# Altium integrated library lib_ti.IntLib: 45 symbols
Pins are listed as number, name and electrical type; pins without a type are passive.

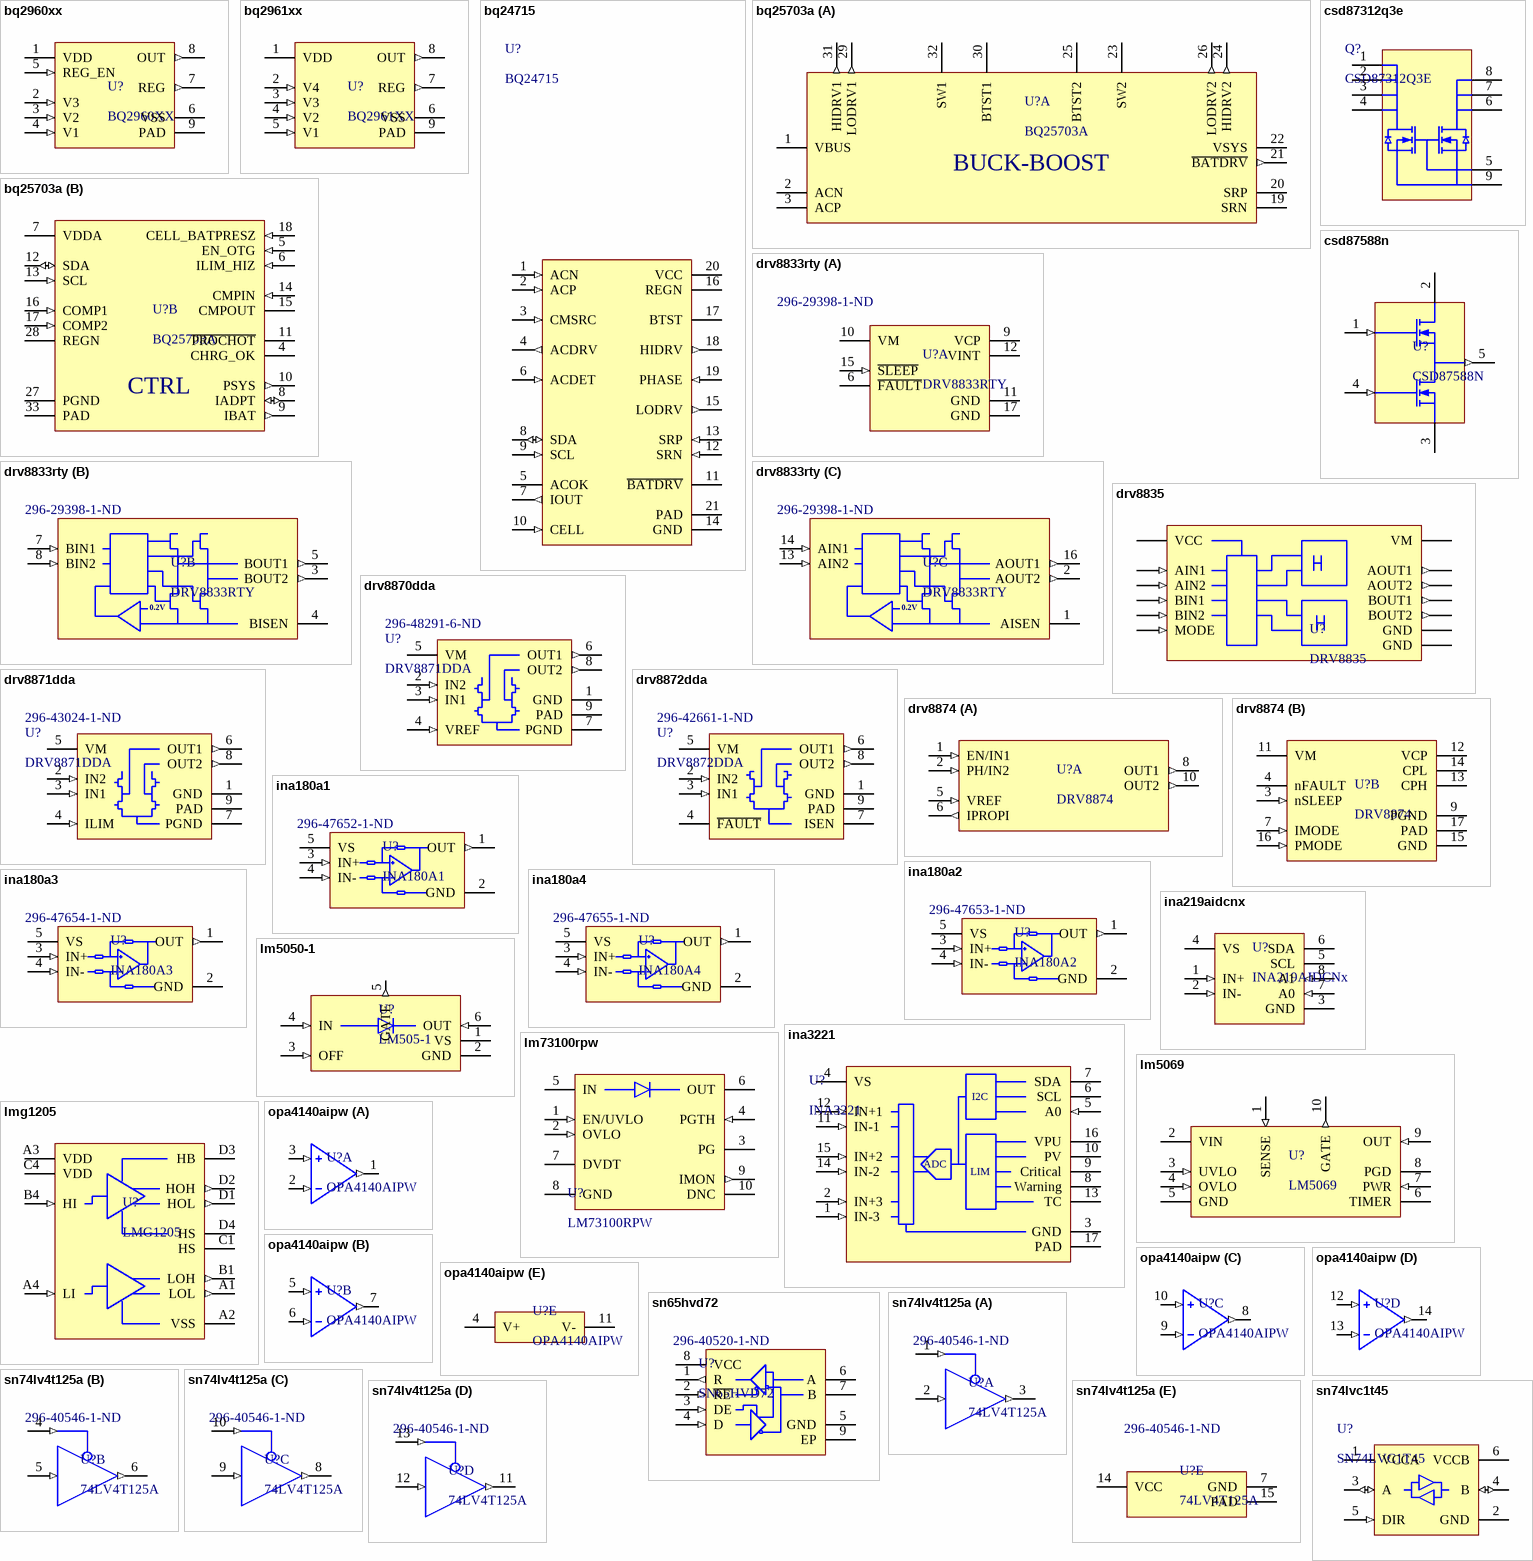
[diagram p0: symbols bq2960xx to sn74lvc1t45]

## bq2960xx
designator U?, comment BQ2960XX
BQ296xxx Overvoltage Protection for 2-Series, 3-Series, and 4-Series Cell Li-Ion Batteries with Regulated Output Supply; ComponentLink1Description: datasheet; ComponentLink1URL: http://www.ti.com/lit/ds/symlink/bq2962.pdf
footprint SON50P200X80_HS-9N-BQ2960XX (SON, 8-Leads, Body 2.00x2.00mm, Pitch 0.50mm, Thermal Pad 1.60x0.69mm, IPC Medium Density)
pins: 1 VDD (power), 2 V3 (in), 3 V2 (in), 4 V1 (in), 5 REG_EN (in), 6 VSS (power), 7 REG (out), 8 OUT (out), 9 PAD (power)

## bq2961xx
designator U?, comment BQ2961XX
BQ296xxx Overvoltage Protection for 2-Series, 3-Series, and 4-Series Cell Li-Ion Batteries with Regulated Output Supply; ComponentLink1Description: datasheet; ComponentLink1URL: http://www.ti.com/lit/ds/symlink/bq2962.pdf
footprint SON50P200X80_HS-9N-BQ2960XX (SON, 8-Leads, Body 2.00x2.00mm, Pitch 0.50mm, Thermal Pad 1.60x0.69mm, IPC Medium Density)
pins: 1 VDD (power), 2 V4 (in), 3 V3 (in), 4 V2 (in), 5 V1 (in), 6 VSS (power), 7 REG (out), 8 OUT (out), 9 PAD (power)

## bq24715
designator U?, comment BQ24715
2-3 Cell NVDC-1 Battery Charger Controller with Ultra-Fast Transient Response and High Light-Load Efficiency; ComponentLink1Description: Datasheet; ComponentLink1URL: https://www.ti.com/lit/gpn/bq24715; Supplier 1: Digi-Key; Supplier Part Number 1: 296-39928-1-ND; Supplier 2: Mouser; Supplier Part Number 2: 595-BQ24715RGRR; Supplier 3: Digi-Key; Supplier Part Number 3: 296-48494-1-ND; Supplier 4: Mouser; Supplier Part Number 4: 595-BQ24715RGRT
footprint QFN50P350X350X100_HS-21N-BQ24715 (QFN, 20-Leads, Body 3.50x3.50mm, Pitch 0.50mm, Thermal Pad 2.00x2.00mm, IPC Medium Density)
pins: 1 ACN (in), 2 ACP (in), 3 CMSRC (in), 4 ACDRV (out), 5 ACOK (oc), 6 ACDET (in), 7 IOUT (out), 8 SDA (io), 9 SCL (in), 10 CELL (in), 11 ~{BATDRV} (oc), 12 SRN (in), 13 SRP (in), 14 GND (power), 15 LODRV (out), 16 REGN (power), 17 BTST (power), 18 HIDRV (out), 19 PHASE (in), 20 VCC (power), 21 PAD (power)

## bq25703a
designator U?, comment BQ25703A
I2C Multi-Chemistry Battery Buck-Boost Charge Controller With System Power Monitor and Processor Hot Monitor; ComponentLink1Description: datasheet; ComponentLink1URL: http://www.ti.com/lit/ds/symlink/bq25703a.pdf
footprint QFN40P400X400X80_HS-33N_BQ25703A (QFN, 32-Leads, Body 4.00x4.00mm, Pitch 0.40mm, Thermal Pad 2.80x2.80mm, IPC Medium Density)
part A pins: 1 VBUS (power), 2 ACN (power), 3 ACP (power), 19 SRN (power), 20 SRP (power), 21 ~{BATDRV} (out), 22 VSYS (power), 23 SW2 (power), 24 HIDRV2 (out), 25 BTST2 (power), 26 LODRV2 (out), 29 LODRV1 (out), 30 BTST1 (power), 31 HIDRV1 (out), 32 SW1 (power)
part B pins: 4 CHRG_OK (oc), 5 EN_OTG (in), 6 ILIM_HIZ (in), 7 VDDA (power), 8 IADPT (io), 9 IBAT (out), 10 PSYS (out), 11 ~{PROCHOT} (oc), 12 SDA (io), 13 SCL (in), 14 CMPIN (in), 15 CMPOUT (oc), 16 COMP1 (in), 17 COMP2 (in), 18 CELL_BATPRESZ (in), 27 PGND (power), 28 REGN (power), 33 PAD (power)
part A text: BUCK-BOOST
part B text: CTRL

## csd87312q3e
designator Q?, comment CSD87312Q3E
Dual 30-V N-Channel NexFET™ Power MOSFETs; ComponentLink1Description: Datasheet; ComponentLink1URL: https://www.ti.com/lit/ds/symlink/csd87312q3e.pdf
footprint SON65P330X105_HS-9N-CSD87312Q3E (SON, 8-Leads, Body 3.30x3.30mm, Pitch 0.65mm, Thermal Pad 2.70x1.79mm, IPC Medium Density)
pins: 1 D1, 2 D1, 3 D1, 4 D1, 5 G, 6 D2, 7 D2, 8 D2, 9 S

## csd87588n
designator U?, comment CSD87588N
Synchronous Buck NexFET™ Power Block II; ComponentLink1Description: datasheet; ComponentLink1URL: http://www.ti.com/lit/ds/symlink/csd87588n.pdf
footprint 5PTAB
pins: 1 TG (in), 2 VIN (power), 3 GND (power), 4 BG (in), 5 VSW (out)

## drv8833rty
designator U?, comment DRV8833RTY  Supplier Part Number 1: 296-29398-1-ND
Dual H-Bridge Motor Driver; ComponentLink1Description: Datasheet; ComponentLink1URL: http://www.ti.com/lit/ds/symlink/drv8833.pdf; Supplier 1: Digi-Key
footprint QFN65P400X400X80_HS-17N (QFN, 16-Leads, Body 4,00x4,00mm, Pitch 0,65mm, Thermal Pad 2,10x2,10mm, IPC Medium Density)
part A pins: 6 ~{FAULT} (oc), 9 VCP (power), 10 VM (power), 11 GND (power), 12 VINT (power), 15 ~{SLEEP} (in), 17 GND (power)
part B pins: 3 BOUT2 (out), 4 BISEN (power), 5 BOUT1 (out), 7 BIN1 (in), 8 BIN2 (in)
part C pins: 1 AISEN (power), 2 AOUT2 (out), 13 AIN2 (in), 14 AIN1 (in), 16 AOUT1 (out)
part B text: 0.2V
part C text: 0.2V

## drv8835
designator U?, comment DRV8835
Dual Low-VoltageH-BridgeIC; ComponentLink1Description: Datasheet; ComponentLink1URL: http://www.ti.com/lit/ds/symlink/drv8835.pdf
footprint SON50P200X80_HS-13N-DRV8835 (SON, 12-Leads, Body 3.00x2.00mm, Pitch 0.50mm, Thermal Pad 2.00x0.79mm, IPC Medium Density)
pins: 1 VM (power), 2 AOUT1 (out), 3 AOUT2 (out), 4 BOUT1 (out), 5 BOUT2 (out), 6 GND (power), 7 BIN2 (in), 8 BIN1 (in), 9 AIN2 (in), 10 AIN1 (in), 11 MODE (in), 12 VCC (power), 13 GND (power)

## drv8870dda
designator U?, comment DRV8871DDA  Supplier Part Number 1: 296-48291-6-ND
3.6-A Brushed DC Motor Driver (PWM Control); #digikey: *; #mouser: *; Supplier 1: Digi-Key; ComponentLink1Description: Datasheet; ComponentLink1URL: http://www.ti.com/lit/ds/symlink/drv8870.pdf
footprint SOIC127P600X170_HS-9N (SOIC, 8-Leads, Body 4,90x3,90mm, Pitch 1,27mm, Thermal Pad 3,10x2,40mm, IPC Medium Density)
pins: 1 GND (power), 2 IN2 (in), 3 IN1 (in), 4 VREF (in), 5 VM (power), 6 OUT1 (out), 7 PGND (power), 8 OUT2 (out), 9 PAD (power)

## drv8871dda
designator U?, comment DRV8871DDA  Supplier Part Number 1: 296-43024-1-ND
3.6-A Brushed DC Motor Driver With Internal Current Sense (PWM Control)er; #digikey: *; #mouser: *; Supplier 1: Digi-Key; ComponentLink1Description: Datasheet; ComponentLink1URL: http://www.ti.com/lit/ds/symlink/drv8871.pdf
footprint SOIC127P600X170_HS-9N (SOIC, 8-Leads, Body 4,90x3,90mm, Pitch 1,27mm, Thermal Pad 3,10x2,40mm, IPC Medium Density)
pins: 1 GND (power), 2 IN2 (in), 3 IN1 (in), 4 ILIM (in), 5 VM (power), 6 OUT1 (out), 7 PGND (power), 8 OUT2 (out), 9 PAD (power)

## drv8872dda
designator U?, comment DRV8872DDA  Supplier Part Number 1: 296-42661-1-ND
3.6-A Brushed DC Motor Driver With Fault Reporting (PWM Control); ComponentLink1Description: Datasheet; ComponentLink1URL: http://www.ti.com/lit/ds/symlink/drv8872.pdf; #digikey: *; #mouser: *; Supplier 1: Digi-Key
footprint SOIC127P600X170_HS-9N (SOIC, 8-Leads, Body 4,90x3,90mm, Pitch 1,27mm, Thermal Pad 3,10x2,40mm, IPC Medium Density)
pins: 1 GND (power), 2 IN2 (in), 3 IN1 (in), 4 ~{FAULT} (oc), 5 VM (power), 6 OUT1 (out), 7 ISEN (power), 8 OUT2 (out), 9 PAD (power)

## drv8874
designator U?, comment DRV8874
H-Bridge Motor Driver With Integrated Current Sense and Regulation; ComponentLink1Description: Datasheet; ComponentLink1URL: http://www.ti.com/lit/gpn/drv8874
footprint TSOP65P640X120_HS-17N_DRV8874 (TSOP, 16-Leads, Body 5.00x4.40mm, Pitch 0.65mm, Thermal Pad 3.55x2.46mm, IPC Medium Density)
part A pins: 1 EN/IN1 (in), 2 PH/IN2 (in), 5 VREF (in), 6 IPROPI (out), 8 OUT1 (out), 10 OUT2 (out)
part B pins: 3 nSLEEP (in), 4 nFAULT (oc), 7 IMODE (in), 9 PGND (power), 11 VM (power), 12 VCP (power), 13 CPH, 14 CPL, 15 GND (power), 16 PMODE (in), 17 PAD (power)

## ina180a1
designator U?, comment INA180A1  Supplier Part Number 1: 296-47652-1-ND
Low- and High-Side Voltage Output, Current-Sense Amplifiers; Datasheet: http://www.ti.com/lit/ds/symlink/ina180.pdf; #digikey: *; #mouser: *; Supplier 1: Digi-Key
footprint SOT95P280X145-5N (SOT23, 5-Leads, Body 2,90x2,80mm, Pitch 0,95mm, IPC Medium Density)
pins: 1 OUT (out), 2 GND (power), 3 IN+ (in), 4 IN- (in), 5 VS (power)

## ina180a2
designator U?, comment INA180A2  Supplier Part Number 1: 296-47653-1-ND
Low- and High-Side Voltage Output, Current-Sense Amplifiers; Datasheet: http://www.ti.com/lit/ds/symlink/ina180.pdf; #digikey: *; #mouser: *; Supplier 1: Digi-Key
footprint SOT95P280X145-5N (SOT23, 5-Leads, Body 2,90x2,80mm, Pitch 0,95mm, IPC Medium Density)
pins: 1 OUT (out), 2 GND (power), 3 IN+ (in), 4 IN- (in), 5 VS (power)

## ina180a3
designator U?, comment INA180A3  Supplier Part Number 1: 296-47654-1-ND
Low- and High-Side Voltage Output, Current-Sense Amplifiers; Datasheet: http://www.ti.com/lit/ds/symlink/ina180.pdf; #digikey: *; #mouser: *; Supplier 1: Digi-Key
footprint SOT95P280X145-5N (SOT23, 5-Leads, Body 2,90x2,80mm, Pitch 0,95mm, IPC Medium Density)
pins: 1 OUT (out), 2 GND (power), 3 IN+ (in), 4 IN- (in), 5 VS (power)

## ina180a4
designator U?, comment INA180A4  Supplier Part Number 1: 296-47655-1-ND
Low- and High-Side Voltage Output, Current-Sense Amplifiers; Datasheet: http://www.ti.com/lit/ds/symlink/ina180.pdf; #digikey: *; #mouser: *; Supplier 1: Digi-Key
footprint SOT95P280X145-5N (SOT23, 5-Leads, Body 2,90x2,80mm, Pitch 0,95mm, IPC Medium Density)
pins: 1 OUT (out), 2 GND (power), 3 IN+ (in), 4 IN- (in), 5 VS (power)

## ina219aidcnx
designator U?, comment INA219AIDCNx
INA219 Zero-Drift, Bidirectional Current/Power Monitor With I2C Interface; ComponentLink1Description: Datasheet; ComponentLink1URL: https://www.ti.com/lit/ds/symlink/ina219.pdf?&ts=1589650364826; Supplier 1: Digi-Key; Supplier Part Number 1: 296-23770-1-ND
footprint TSOP65P280X145-8N (TSOP, 8-Leads, Body 2.90x1.60mm, Pitch 0.65mm, IPC Medium Density)
pins: 1 IN+ (in), 2 IN- (in), 3 GND (power), 4 VS (power), 5 SCL (oc), 6 SDA (oc), 7 A0 (in), 8 A1 (in)

## ina3221
designator U?, comment INA3221
Triple-Channel, High-Side Measurement. Shunt and Bus Voltage Monitor with I 2 C- and SMBUS-Compatible Interface; ComponentLink1Description: datasheet; ComponentLink1URL: http://www.ti.com/lit/ds/sbos576b/sbos576b.pdf
footprint QFN65P400X400X100_HS-17N_INA3221 (QFN, 16-Leads, Body 4.00x4.00mm, Pitch 0.65mm, Thermal Pad 2.10x2.10mm, IPC Medium Density)
pins: 1 IN-3 (in), 2 IN+3 (in), 3 GND (power), 4 VS (power), 5 A0 (in), 6 SCL (oc), 7 SDA (oc), 8 Warning (oc), 9 Critical (oc), 10 PV (oc), 11 IN-1 (in), 12 IN+1 (in), 13 TC (oc), 14 IN-2 (in), 15 IN+2 (in), 16 VPU (power), 17 PAD (power)
text: I2C; ADC; LIM

## lm5050-1
designator U?, comment LM505-1
High-Side OR-ing FET Controller; #digikey: *; ComponentLink1Description: datasheet; ComponentLink1URL: http://www.ti.com/lit/ds/snvs629e/snvs629e.pdf
footprint SOT95P280X110-6N-LM5050-1 (SOT23, 6-Leads, Body 2,90x2,80mm, Pitch 0,95mm, IPC Medium Density)
pins: 1 VS (power), 2 GND (power), 3 OFF (in), 4 IN (in), 5 GATE (out), 6 OUT (in)

## lm5069
designator U?, comment LM5069
Positive High-Voltage Hot Swap and In-Rush Current Controller / With Power Limiting; ComponentLink1Description: datasheet; ComponentLink1URL: http://www.ti.com/lit/ds/symlink/lm5069.pdf
footprint TSSOP50P490X110-10N-LM5069 (TSSOP, 10-Leads, Body 3,00x3,00mm, Pitch 0,50mm, IPC Medium Density)
pins: 1 SENSE (in), 2 VIN (power), 3 UVLO (in), 4 OVLO (in), 5 GND (power), 6 TIMER, 7 PWR (in), 8 PGD (oc), 9 OUT (in), 10 GATE (out)

## lm73100rpw
designator U?, comment LM73100RPW
2.7 - 23 V, 5.5 A Integrated Ideal Diode with Input Reverse Polarity and Overvoltage Protection; ComponentLink1Description: Datasheet; ComponentLink1URL: https://www.ti.com/lit/ds/symlink/lm7310.pdf
pins: 1 EN/UVLO (in), 2 OVLO (in), 3 PG (oc), 4 PGTH (in), 5 IN (power), 6 OUT (power), 7 DVDT, 8 GND (power), 9 IMON (out), 10 DNC

## lmg1205
designator U?, comment LMG1205
80-V, 1.2-A to 5-A, Half Bridge GaN Driver with Integrated Bootstrap Diode; ComponentLink1Description: datasheet; ComponentLink1URL: http://www.ti.com/lit/ds/symlink/lmg1205.pdf
footprint BGA12C40P4X4_173X188X68-LMG1205 (BGA, 12-Leads, Body 1,73x1,88mmx0,68mm, Pitch 0,40mm)
pins: A1 LOL (out), A2 VSS (power), A3 VDD (power), A4 LI (in), B1 LOH (out), B4 HI (in), C1 HS (power), C4 VDD (power), D1 HOL (out), D2 HOH (out), D3 HB (power), D4 HS (power)

## opa4140aipw
designator U?, comment OPA4140AIPW
High-Precision, Low-Noise, Rail-to-Rail Output, 11-MHz, JFET Op Amp
footprint TSOP65P640X120-14N_OPA4140 (TSOP, 14-Leads, Body 5.00x4.40mm, Pitch 0.65mm, IPC Medium Density)
part A pins: 1 OUTA (out), 2 -INA (in), 3 +INA (in)
part B pins: 5 +INB (in), 6 -INB (in), 7 OUTB (out)
part C pins: 8 OUTC (out), 9 -INC (in), 10 +INC (in)
part D pins: 12 +IND (in), 13 -IND (in), 14 OUTD (out)
part E pins: 4 V+ (power), 11 V- (power)

## sn65hvd72
designator U?, comment SN65HVD72  Supplier Part Number 1: 296-40520-1-ND
3.3-V Supply RS-485 With IEC ESD Protection; ComponentLink1Description: Datasheet; ComponentLink1URL: http://www.ti.com/lit/ds/symlink/sn65hvd72.pdf; #digikey: *; #mouser: *; Supplier 1: Digi-Key
footprint SON65P300X100_HS-9N (SON, 8-Leads, Body 3,00x3,00mm, Pitch 0,65mm, Thermal Pad 2,40x1,49mm, IPC Medium Density)
pins: 1 R (out), 2 ~{RE} (in), 3 DE (in), 4 D (in), 5 GND (power), 6 A, 7 B, 8 VCC (power), 9 EP (power)

## sn74lv4t125a
designator U?, comment 74LV4T125A  Supplier Part Number 1: 296-40546-1-ND
Quadruple Bus Buffer Gates With 3-State Outputs; #digikey: *; #mouser: *; ComponentLink1Description: Datasheet; ComponentLink1URL: http://www.ti.com/lit/ds/symlink/sn74lv125a.pdf; Supplier 1: Digi-Key
footprint QFN50P350X350X100_HS-15N (QFN, 14-Leads, Body 3.50x3.50mm, Pitch 0.50mm/1.50mm, Thermal Pad 2.05x2.05mm, IPC Medium Density)
part A pins: 1 1OE (in), 2 1A (in), 3 1Y (out)
part B pins: 4 2OE (in), 5 2A (in), 6 2Y (out)
part C pins: 8 3Y (out), 9 3A (in), 10 3OE (in)
part D pins: 11 4Y (out), 12 4A (in), 13 4OE (in)
part E pins: 7 GND (power), 14 VCC (power), 15 PAD

## sn74lvc1t45
designator U?, comment SN74LVC1T45
Single-Bit Dual-Supply Bus Transceiver With Configurable Voltage Translation and 3-State Outputs; Supplier 1: Digi-Key; Supplier Part Number 1: 296-37701-1-ND; Supplier 2: Digi-Key; Supplier Part Number 2: 296-37701-6-ND; Supplier 3: Mouser; Supplier Part Number 3: 595-74LVC1T45DCKTG4; ComponentLink1Description: Datasheet; ComponentLink1URL: https://www.ti.com/general/docs/suppproductinfo.tsp?distId=10&gotoUrl=https%3A%2F%2Fwww.ti.com%2Flit%2Fgpn%2Fsn74lvc1t45
footprint SOT65P210X110-6N_SN74LVC1T45 (SOT23, 6-Leads, Body 2.00x2.10mm, Pitch 0.65mm, IPC Medium Density)
pins: 1 VCCA (power), 2 GND (power), 3 A (io), 4 B (io), 5 DIR (in), 6 VCCB (power)

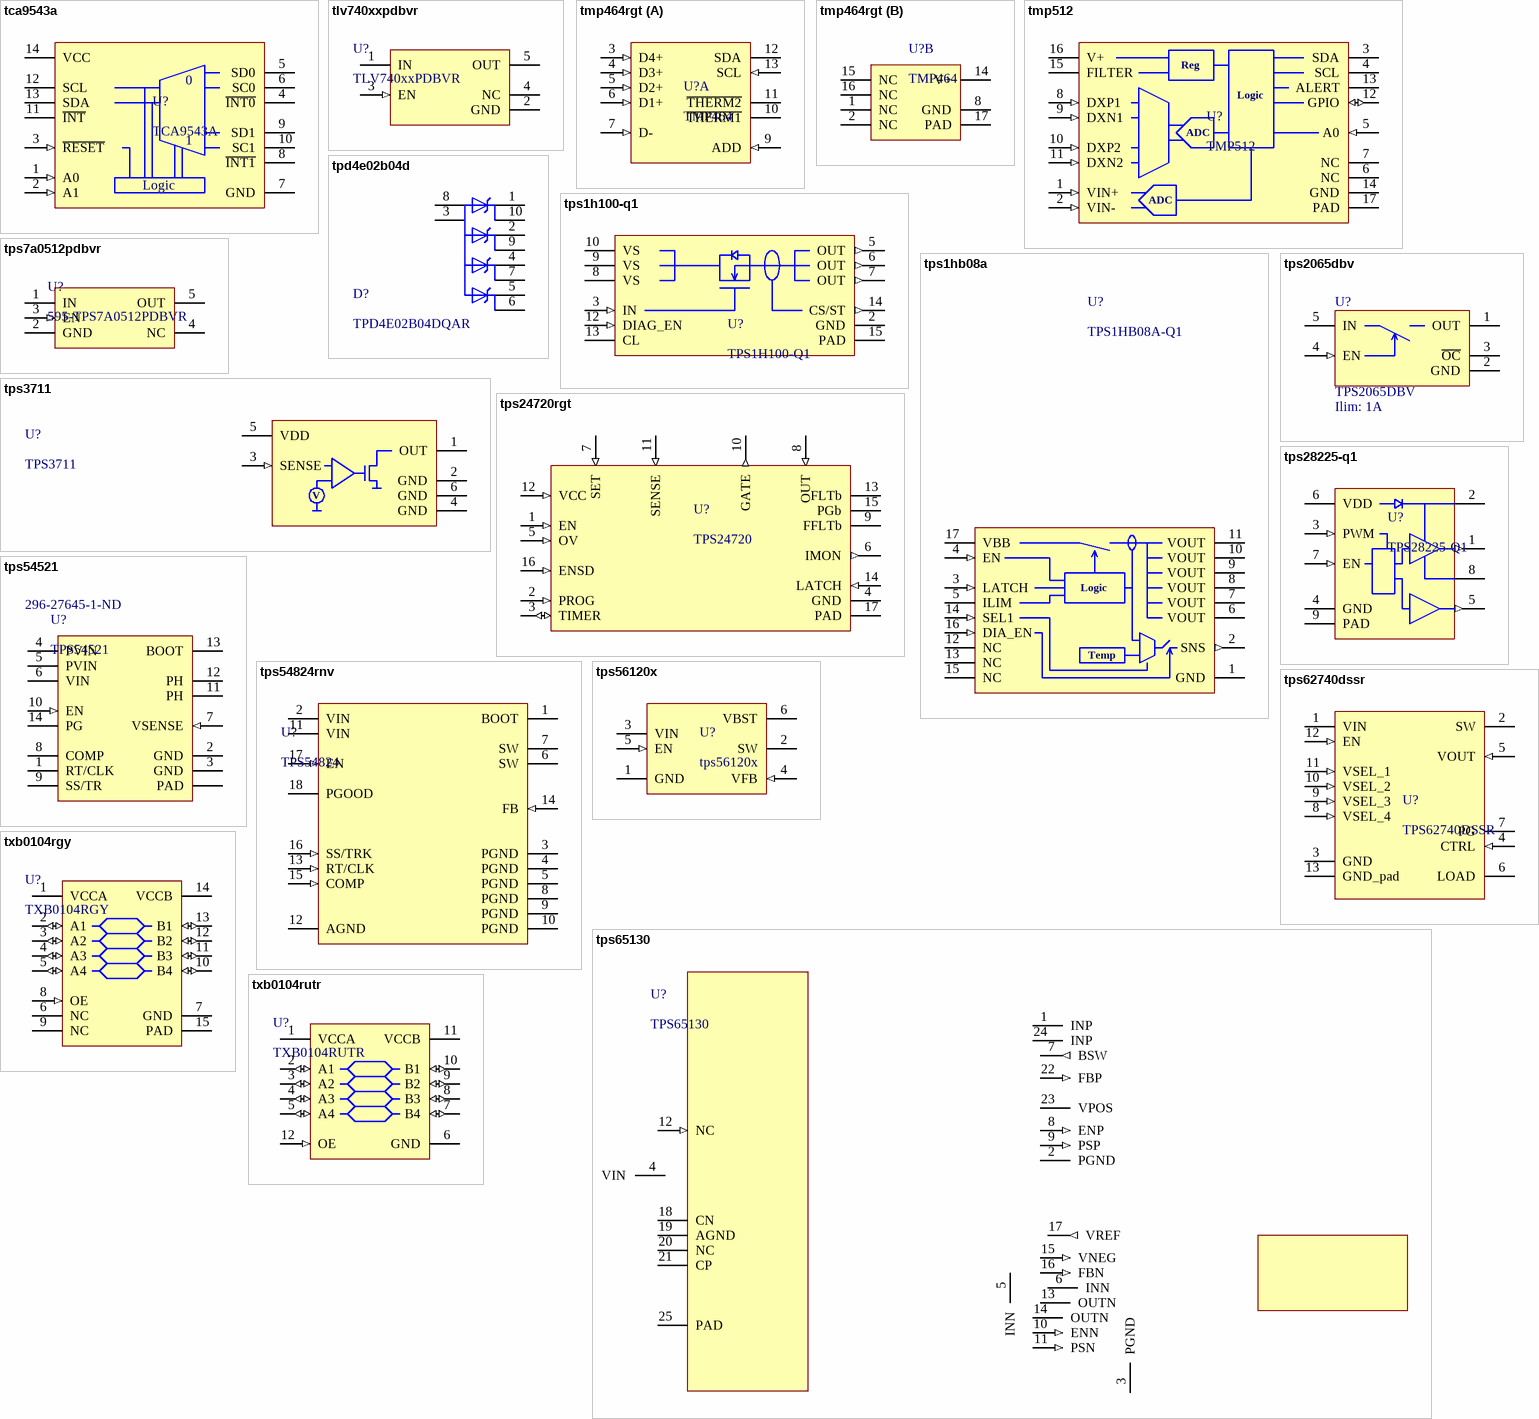
[diagram p1: symbols tca9543a to txb0104rutr]

## tca9543a
designator U?, comment TCA9543A
Low Voltage 2-Channel I2C Bus Switch With Interrupt Logic And Reset; ComponentLink1Description: datasheet; ComponentLink1URL: http://www.ti.com/lit/ds/symlink/tca9543a.pdf
footprint TSOP65P640X120-14N_PCA9543A (TSOP, 14-Leads, Body 5.00x4.40mm, Pitch 0.65mm, IPC Medium Density)
pins: 1 A0 (in), 2 A1 (in), 3 ~{RESET} (in), 4 ~{INT0} (oc), 5 SD0 (oc), 6 SC0 (oc), 7 GND (power), 8 ~{INT1} (oc), 9 SD1 (oc), 10 SC1 (oc), 11 ~{INT} (oc), 12 SCL (oc), 13 SDA (oc), 14 VCC (power)
text: 0; Logic

## tlv740xxpdbvr
designator U?, comment TLV740xxPDBVR
300-mA, Low-Dropout Regulator / With Foldback Current Limit; ComponentLink1Description: Datasheet; ComponentLink1URL: https://www.ti.com/lit/gpn/tlv740p
footprint SOT95P280X145-5N-TLV740P (SOT23, 5-Leads, Body 2.90x2.80mm, Pitch 0.95mm, IPC Medium Density)
pins: 1 IN (power), 2 GND (power), 3 EN (in), 4 NC, 5 OUT (power)

## tmp464rgt
designator U?, comment TMP464
High-Accuracy 5-Channel (4-Remote and 1-Local) Temperature Sensor; ComponentLink1Description: Datasheet; ComponentLink1URL: https://www.ti.com/lit/ds/symlink/tmp464.pdf; Supplier 1: Digi-Key; Supplier Part Number 1: 296-46946-1-ND; Supplier 2: Digi-Key; Supplier Part Number 2: 296-50713-1-ND
footprint QFN50P300X300X100_HS-17N_TMP464 (QFN, 16-Leads, Body 3.00x3.00mm, Pitch 0.50mm, Thermal Pad 1.68x1.68mm, IPC Medium Density)
part A pins: 3 D4+ (in), 4 D3+ (in), 5 D2+ (in), 6 D1+ (in), 7 D- (in), 9 ADD (in), 10 ~{THERM1} (oc), 11 ~{THERM2} (oc), 12 SDA (oc), 13 SCL (in)
part B pins: 1 NC, 2 NC, 8 GND (power), 14 V+ (power), 15 NC, 16 NC, 17 PAD (power)

## tmp512
designator U?, comment TMP512
Temperature and Power Supply System Monitors; ComponentLink1Description: datasheet; ComponentLink1URL: http://www.ti.com/lit/ds/symlink/tmp512.pdf
footprint QFN65P400X400X100_HS-17N_TMP512 (QFN, 16-Leads, Body 4.00x4.00mm, Pitch 0.65mm, Thermal Pad 2.70x2.70mm, IPC Medium Density)
pins: 1 VIN+ (in), 2 VIN- (in), 3 SDA (oc), 4 SCL (oc), 5 A0 (in), 6 NC, 7 NC, 8 DXP1 (in), 9 DXN1 (in), 10 DXP2 (in), 11 DXN2 (in), 12 GPIO (io), 13 ALERT (oc), 14 GND (power), 15 FILTER, 16 V+ (power), 17 PAD (power)
text: Reg; Logic; ADC

## tpd4e02b04d
designator D?, comment TPD4E02B04DQAR
4-Channel ESD Protection Diode for USB Type-C and HDMI 2.0; ComponentLink1Description: Datasheet; ComponentLink1URL: https://www.ti.com/lit/ds/symlink/tpd4e02b04.pdf
footprint SON50P100X55-10N_TPD4E02B04 (SON, 10-Leads, Body 2.50x1.00mm, Pitch 0.50mm, IPC Medium Density)
pins: 1, 2, 3, 4, 5, 6, 7, 8, 9, 10

## tps1h100-q1
designator U?, comment TPS1H100-Q1
TPS1H100-Q1 40-V, 100-mΩ Single-Channel Smart High-Side Power Switch; ComponentLink1Description: datasheet; ComponentLink1URL: http://www.ti.com/lit/ds/symlink/tps1h100-q1.pdf; #digikey: *
footprint TSOP65P640X120_HS-15N-TPS1H100-Q1 (TSOP, 14-Leads, Body 5,00x4,40mm, Pitch 0,65mm, Thermal Pad 2,31x2,46mm, IPC Medium Density)
pins: 2 GND (power), 3 IN (in), 5 OUT (out), 6 OUT (out), 7 OUT (out), 8 VS (power), 9 VS (power), 10 VS (power), 12 DIAG_EN (in), 13 CL, 14 CS/ST (out), 15 PAD (power)

## tps1hb08a
designator U?, comment TPS1HB08A-Q1
40-V, 8-mΩ Single-Channel Smart High-Side Switch; ComponentLink1Description: datasheet; ComponentLink1URL: http://www.ti.com/lit/ds/symlink/tps1hb08-q1.pdf
footprint TSOP65P640X120_HS-17N_TPS1HB08 (TSOP, 16-Leads, Body 5.00x4.40mm, Pitch 0.65mm, Thermal Pad 2.46x2.66mm, IPC Medium Density)
pins: 1 GND (power), 2 SNS (out), 3 LATCH (in), 4 EN (in), 5 ILIM, 6 VOUT (power), 7 VOUT (power), 8 VOUT (power), 9 VOUT (power), 10 VOUT (power), 11 VOUT (power), 12 NC, 13 NC, 14 SEL1 (in), 15 NC, 16 DIA_EN (in), 17 VBB (power)
text: Logic; Temp

## tps7a0512pdbvr
designator U?, comment 595-TPS7A0512PDBVR
TPS7A05 1-µA Ultralow IQ, 200-mA, Low-Dropout Regulator; ComponentLink1Description: datasheet; ComponentLink1URL: http://www.ti.com/lit/ds/symlink/tps7a05.pdf?HQS=TI-null-null-mousermode-df-pf-null-wwe&DCM=yes&ref_url=https%3A%2F%2Fwww.mouser.se%2F
footprint SOT95P280X145-5N (SOT23, 5-Leads, Body 2,90x2,80mm, Pitch 0,95mm, IPC Medium Density)
pins: 1 IN (power), 2 GND (power), 3 EN (in), 4 NC, 5 OUT (power)

## tps2065dbv
designator U?, comment TPS2065DBV  Ilim: 1A
CURRENT-LIMITED,POWER-DISTRIBUTIONSWITCHES; ComponentLink1Description: Datasheet; ComponentLink1URL: https://www.ti.com/lit/ds/symlink/tps2065.pdf
footprint SOT95P280X145-5N_TPS2065DBV (SOT23, 5-Leads, Body 2.90x2.80mm, Pitch 0.95mm, IPC Medium Density)
pins: 1 OUT (power), 2 GND (power), 3 ~{OC} (oc), 4 EN (in), 5 IN (power)

## tps3711
designator U?, comment TPS3711
36-V Voltage Detector; ComponentLink1Description: Datasheet; ComponentLink1URL: https://www.ti.com/lit/ds/symlink/tps3711.pdf
footprint SOT95P280X110-6N-TPS3711 (SOT23, 6-Leads, Body 2.90x2.80mm, Pitch 0.95mm, IPC Medium Density)
pins: 1 OUT (oc), 2 GND (power), 3 SENSE (in), 4 GND (power), 5 VDD (power), 6 GND (power)
text: V

## tps24720rgt
designator U?, comment TPS24720
TPS24720 2.5-V to 18-V High-Efficiency Adjustable Power-Limiting Hot-Swap Controller With Current Monitor and Overvoltage Protection; ComponentLink1Description: datasheet; ComponentLink1URL: http://www.ti.com/lit/ds/symlink/tps24720.pdf
footprint QFN50P300X300X100_HS-17N_tps24720 (QFN, 16-Leads, Body 3.00x3.00mm, Pitch 0.50mm, Thermal Pad 1.68x1.68mm, IPC Medium Density)
pins: 1 EN (in), 2 PROG (in), 3 TIMER (io), 4 GND (power), 5 OV (in), 6 IMON (out), 7 SET (in), 8 OUT (in), 9 FFLTb (oc), 10 GATE (out), 11 SENSE (in), 12 VCC (in), 13 FLTb (oc), 14 LATCH (in), 15 PGb (oc), 16 ENSD (in), 17 PAD (power)

## tps28225-q1
designator U?, comment TPS28225-Q1
High-Frequency 4-A Sink Synchronous MOSFET Drivers; ComponentLink1Description: datasheet; ComponentLink1URL: http://www.ti.com/lit/ds/symlink/tps28225-q1.pdf
footprint SON65P300X100_HS-9N-TPS28225 (SON, 8-Leads, Body 3,00x3,00mm, Pitch 0,65mm, Thermal Pad 1,75x1,49mm, IPC Medium Density)
pins: 1 UGATE (out), 2 BOOT (power), 3 PWM (in), 4 GND (power), 5 LGATE (out), 6 VDD (power), 7 EN (in), 8 PHASE, 9 PAD (power)

## tps54521
designator U?, comment TPS54521  Supplier Part Number 1: 296-27645-1-ND
4.5V to 17V Input, 5A Synchronous Step Down Converter; ComponentLink1Description: Datasheet; ComponentLink1URL: http://www.ti.com/lit/gpn/tps54521; #digikey: *; #mouser: *; Supplier 1: Digi-Key
footprint QFN50P350X350X100_HS-19N (QFN, 18-Leads, Body 3,50x3,50mm, Pitch 0,50mm, Thermal Pad 2,05x2,05mm, IPC Medium Density)
pins: 1 RT/CLK, 2 GND (power), 3 GND (power), 4 PVIN (power), 5 PVIN (power), 6 VIN (power), 7 VSENSE (in), 8 COMP, 9 SS/TR, 10 EN (in), 11 PH (power), 12 PH (power), 13 BOOT, 14 PG (oc), PAD (power)

## tps54824rnv
designator U?, comment TPS54824
TPS54824 4.5-V to 17-V (19-V Maximum) Input, 8-A Synchronous SWIFT Step-Down Converter; ComponentLink1Description: datasheet; ComponentLink1URL: http://www.ti.com/lit/ds/symlink/tps54824.pdf
footprint QFN50P350X350X100-22N-TPS54824 (QFN, 22-Leads, Body 3.50x3.50mm, Pitch 0.50mm/0.55mm, IPC Medium Density)
pins: 1 BOOT, 2 VIN (power), 3 PGND (power), 4 PGND (power), 5 PGND (power), 6 SW (power), 7 SW (power), 8 PGND (power), 9 PGND (power), 10 PGND (power), 11 VIN (power), 12 AGND (power), 13 RT/CLK (in), 14 FB (in), 15 COMP (in), 16 SS/TRK (in), 17 EN (in), 18 PGOOD (oc)

## tps56120x
designator U?
4.5-V to 17-V Input, 1-A Synchronous  Step-Down  Voltage  Regulator  in 6-Pin  SOT-23; #digikey: *; #mouser: *
footprint SOT95P280X110-6N (SOT23, 6-Leads, Body 2.90x2.80mm, Pitch 0.95mm, IPC Medium Density - TPS56120x)
pins: 1 GND (power), 2 SW (power), 3 VIN (power), 4 VFB (in), 5 EN (in), 6 VBST

## tps62740dssr
designator U?, comment TPS62740DSSR
TPS6274x 360nA IQ Step Down Converter For Low Power Applications; ComponentLink1Description: datasheet; ComponentLink1URL: http://www.ti.com/general/docs/suppproductinfo.tsp?distId=26&gotoUrl=http%3A%2F%2Fwww.ti.com%2Flit%2Fgpn%2Ftps62740
footprint SON50P200X80_HS-13N (SON, 12-Leads, Body 3,00x2,00mm, Pitch 0,50mm, Thermal Pad 2,00x0,48mm, IPC Medium Density)
pins: 1 VIN (power), 2 SW (power), 3 GND (power), 4 CTRL (in), 5 VOUT (in), 6 LOAD (power), 7 PG (oc), 8 VSEL_4 (in), 9 VSEL_3 (in), 10 VSEL_2 (in), 11 VSEL_1 (in), 12 EN (in), 13 GND_pad (power)

## tps65130
designator U?, comment TPS65130
TPS6513x Positive and Negative Output DC-DC Converter
footprint QFN50P400X400X100_HS-25N-TPS65130 (QFN, 24-Leads, Body 4,00x4,00mm, Pitch 0,50mm, Thermal Pad 2,45x2,45mm, IPC Medium Density)
pins: 1 INP (power), 2 PGND (power), 3 PGND (power), 4 VIN (power), 5 INN (power), 6 INN (power), 7 BSW (out), 8 ENP (in), 9 PSP (in), 10 ENN (in), 11 PSN (in), 12 NC (in), 13 OUTN (power), 14 OUTN (power), 15 VNEG (in), 16 FBN (in), 17 VREF (out), 18 CN, 19 AGND (power), 20 NC, 21 CP, 22 FBP (in), 23 VPOS (power), 24 INP (power), 25 PAD (power)

## txb0104rgy
designator U?, comment TXB0104RGY
4-Bit Bidirectional Voltage-level Translator With Automatic Direction Sensing; Supplier 1: Digi-Key; Supplier Part Number 1: 296-21930-1-ND; Supplier 2: Digi-Key; Supplier Part Number 2: 296-21930-6-ND; Supplier 3: Mouser; Supplier Part Number 3: 595-TXB0104RGYR; Supplier 4: LCSC; Supplier Part Number 4: C400708; ComponentLink1Description: datasheet; ComponentLink1URL: https://www.ti.com/lit/ds/symlink/txb0104.pdf
footprint QFN50P350X350X100_HS-15N_TXB0104RGY (QFN, 14-Leads, Body 3.50x3.50mm, Pitch 1.50mm/0.50mm, Thermal Pad 2.05x2.05mm, IPC Medium Density)
pins: 1 VCCA (power), 2 A1 (io), 3 A2 (io), 4 A3 (io), 5 A4 (io), 6 NC, 7 GND (power), 8 OE (in), 9 NC, 10 B4 (io), 11 B3 (io), 12 B2 (io), 13 B1 (io), 14 VCCB (power), 15 PAD (power)

## txb0104rutr
designator U?, comment TXB0104RUTR
4-Bit Bidirectional Voltage-level Translator With Automatic Direction Sensing; Supplier 1: Digi-Key; Supplier Part Number 1: 296-21930-1-ND; Supplier 2: Digi-Key; Supplier Part Number 2: 296-21930-6-ND; Supplier 3: Mouser; Supplier Part Number 3: 595-TXB0104RGYR; Supplier 4: LCSC; Supplier Part Number 4: C400708; ComponentLink1Description: datasheet; ComponentLink1URL: https://www.ti.com/lit/ds/symlink/txb0104.pdf
footprint QFN40P170X200X55-12N_TXB0104RUTR (QFN, 12-Leads, Body 1.70x2.00mm, Pitch 0.40mm, IPC Medium Density)
pins: 1 VCCA (power), 2 A1 (io), 3 A2 (io), 4 A3 (io), 5 A4 (io), 6 GND (power), 7 B4 (io), 8 B3 (io), 9 B2 (io), 10 B1 (io), 11 VCCB (power), 12 OE (in)